# EAGLE library part WASP (library wasp)
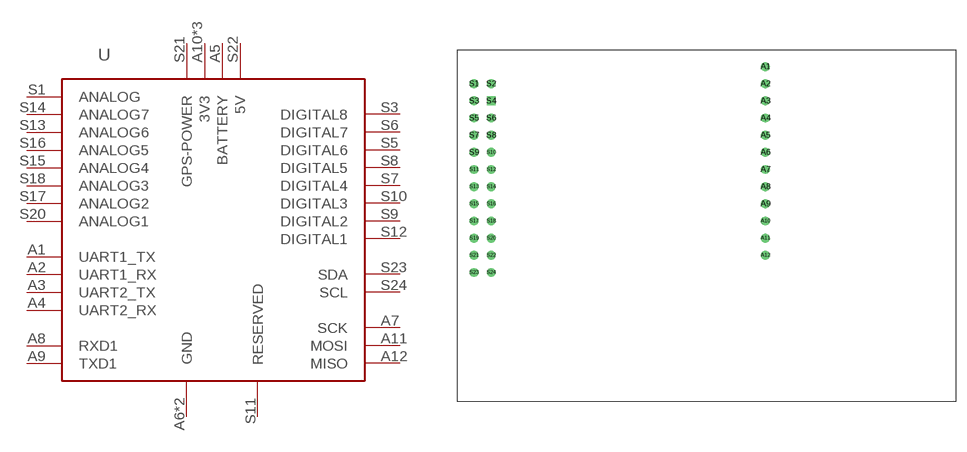
[diagram p0: symbol with the pads of WASP; footprint WASP]

Designator prefix -

## WASP  [WASP]
A1  UART1_TX
A2  UART1_RX
A3  UART2_TX
A4  UART2_RX
A5  BATTERY
A6  GND
A7  SCK
A8  RXD1
A9  TXD1
A10  3V3
A11  MOSI
A12  MISO
S1  ANALOG
S2  3V3
S3  DIGITAL8
S4  GND
S5  DIGITAL6
S6  DIGITAL7
S7  DIGITAL4
S8  DIGITAL5
S9  DIGITAL2
S10  DIGITAL3
S11  RESERVED
S12  DIGITAL1
S13  ANALOG6
S14  ANALOG7
S15  ANALOG4
S16  ANALOG5
S17  ANALOG2
S18  ANALOG3
S19  3V3
S20  ANALOG1
S21  GPS-POWER
S22  5V
S23  SDA
S24  SCL

## Footprint WASP (pad centres in mm)
drill 0.8: A1 10.16,15.24; A2 10.16,12.7; A3 10.16,10.16; A4 10.16,7.62; A5 10.16,5.08; A6 10.16,2.54; A7 10.16,0; A8 10.16,-2.54; A9 10.16,-5.08; A10 10.16,-7.62; A11 10.16,-10.16; A12 10.16,-12.7; S1 -33.02,12.7; S2 -30.48,12.7; S3 -33.02,10.16; S5 -33.02,7.62; S6 -30.48,7.62; S7 -33.02,5.08; S8 -30.48,5.08; S9 -33.02,2.54; S10 -30.48,2.54; S11 -33.02,0; S12 -30.48,0; S13 -33.02,-2.54; S14 -30.48,-2.54; S15 -33.02,-5.08; S16 -30.48,-5.08; S17 -33.02,-7.62; S18 -30.48,-7.62; S19 -33.02,-10.16; S20 -30.48,-10.16; S21 -33.02,-12.7; S22 -30.48,-12.7; S23 -33.02,-15.24; S24 -30.48,-15.24
drill 0.8 square: S4 -30.48,10.16